# Altium schematic symbol library Supernova Transistors.SchLib: 47 symbols
Pins are listed as number, name and electrical type; pins without a type are passive.

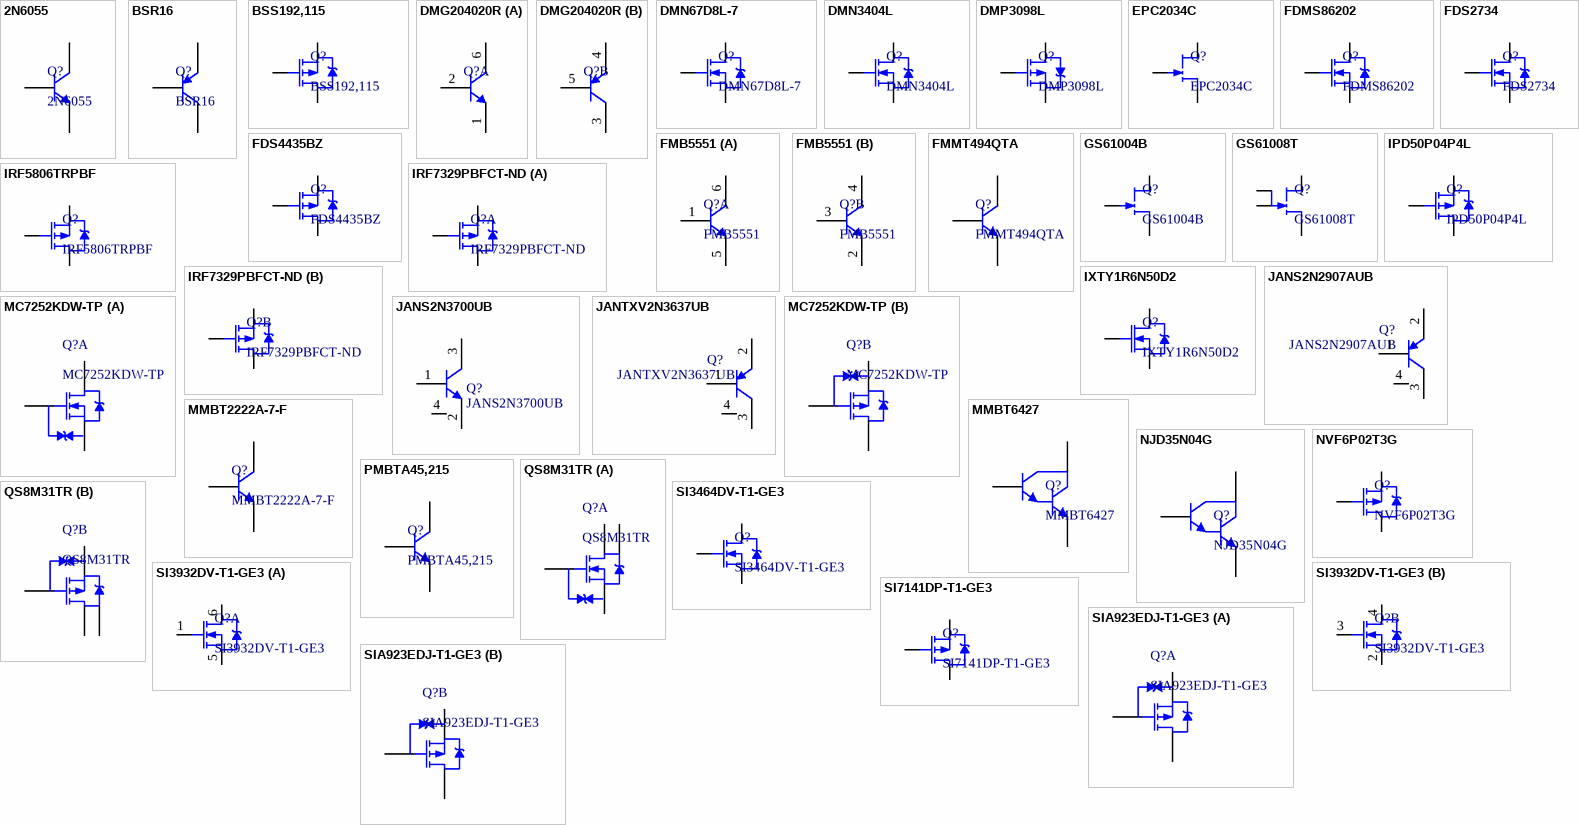
[diagram p0: symbols 2N6055 to SIA923EDJ-T1-GE3]

## 2N6055
designator Q?
Transistor NPN 100W; Supplier 1: Digi-Key; Supplier Part Number 1: 2N6055-ND; Supplier 2: Mouser; Supplier Part Number 2: 610-2N6055
footprint TO-3 (Footprint not found)
pins: 1 B, 2 E, 3 C

## BSR16
designator Q?
Transistor PNP; Supplier 1: Digi-Key; Supplier Part Number 1: BSR16CT-ND; Supplier 2: Digi-Key; Supplier Part Number 2: FMMT591CT-ND; Supplier 3: Digi-Key; Supplier 4: Digi-Key; Supplier 5: Digi-Key; Supplier Part Number 3: ZXTP25060BFHCT-ND; Supplier Part Number 4: DPBT8105DICT-ND; Supplier Part Number 5: ZXTP2029FCT-ND
footprint SOT23-3 (Footprint not found)
pins: 1 B, 2 E, 3 C

## BSS192,115
designator Q?
Transistor PMOSFET 240V; Mass_g: 0.1305; Supplier 1: Digi-Key; Supplier Part Number 1: 1727-4934-1-ND; Supplier 2: Mouser; Supplier Part Number 2: 771-BSS192115
footprint SOT89 (SOT89, 3-Leads, Body 4.50x2.50mm, Pitch 1.50mm, Lead Span 3.5mm, IPC Medium Density)
pins: 1 S, 2 D, 3 G

## DMG204020R
designator Q?  (value not drawn)
Transistor PNP & NPN; Supplier 1: Digi-Key; Supplier 2: Digi-Key; Supplier 3: Digi-Key; Supplier Part Number 1: DMG204020RCT-ND; Supplier Part Number 2: CMXT2207CT-ND; Supplier Part Number 3: 1727-6187-1-ND
footprint SOT23-6 (Footprint not found)
part A pins: 1 E, 2 B, 6 C
part B pins: 3 C, 4 E, 5 B

## DMN67D8L-7
designator Q?
Transistor NMOSFET 0.2A 30Vgs; Supplier 1: Digi-Key; Supplier 2: Digi-Key; Supplier Part Number 1: DMN67D8L-7DICT-ND; Supplier Part Number 2: NTR5103NT1GOSCT-ND
footprint SOT23-3 (Footprint not found)
pins: 1 G, 2 S, 3 D

## DMN3404L
designator Q?
Transistor NMOSFET 5A; Supplier 1: Digi-Key; Supplier Part Number 1: DMN3404LDICT-ND; Supplier 2: Digi-Key; Supplier Part Number 2: DMN3023L-7DICT-ND; Supplier 3: RSComponents; Supplier Part Number 3: 2139174; Supplier 4: Mouser; Supplier Part Number 4: 771-PMV42ENER
footprint SOT23-3 (Footprint not found)
pins: 1 G, 2 S, 3 D

## DMP3098L
designator Q?
Transistor PMOSFET 1.3A; Manufacturer Part Number: NTR1P02LT1G; Manufacturer: ON Semiconductor; Gate Charge (Qg) @ Vgs: 5.5nC @ 4V; Input Capacitance (Ciss) @ Vds: 225pF @ 5V; Drain to Source Voltage (Vdss): 20V; Rds On (Max) @ Id, Vgs: 220 mOhm @ 750mA, 4.5V; Power - Max: 400mW; FET Feature: Logic Level Gate; FET Polarity: P-Channel; Package / Case: SOT-23-3, TO-236-3, Micro3™, SSD3, SST3; Current - Continuous Drain (Id) @ 25° C: 1.3A; Mounting Type: Surface Mount; Packaging: Cut Tape (CT); Category: Discrete Semiconductor Products; RoHS: RoHS Compliant; ComponentLink1URL: http://www.onsemi.com/pub_link/Collateral/NTR1P02LT1-D.PDF; ComponentLink1Description: http://www.onsemi.com/pub_link/Collateral/NTR1P02LT1-D.PDF; Supplier 1 Pricing: 1=0.53, 10=0.375, 100=0.2461, 250=0.1846, 500=0.16782, 1000=0.13426 (USD); Supplier 1 Stock: 8272; Supplier 2 Pricing: 1=0.671, 25=0.462, 100=0.339, 250=0.273, 1000=0.22 (CHF); Supplier 2 Stock: 1953; Supplier 1: Digi-Key; Supplier 2: Digi-Key; Supplier 3: Digi-Key; Supplier 4: Digi-Key; Supplier Part Number 1: DMP3056L-7DICT-ND; Supplier Part Number 2: DMP3098LDICT-ND; Supplier Part Number 3: DMP3099L-7DICT-ND; Supplier Part Number 4: SSM3J334RLFCT-ND
footprint SOT23-3 (Footprint not found)
pins: 1 G, 2 S, 3 D

## EPC2034C
designator Q?
Transistor GaNFET 48A; Supplier 1: Digi-Key; Supplier 2: Digi-Key; Supplier Part Number 1: 917-1132-1-ND; Supplier Part Number 2: 917-1214-1-ND
footprint EPC2034C (BGA, 24-Leads, Body 4.60x2.60mmx0.51mm, Pitch 0.50mm)
pins: D, G, S

## FDMS86202
designator Q?
Transistor NMOSFET 120V 13.5A; Mass_g: 0.0565; Supplier 1: Mouser; Supplier Part Number 1: 512-FDMS86202; Supplier 2: Digi-Key; Supplier Part Number 2: FDMS86202CT-ND
footprint Power 56 (SON, 8-Leads, Body 5.15x6.15mm, Pitch 1.27mm, Thermal Pad 3.74x3.66mm, IPC Medium Density)
pins: D, G, S

## FDS2734
designator Q?
Transistor NMOSFET 250V 3A; Mass_g: 0.13; Supplier 1: Newark; Supplier Part Number 1: 31Y1389; Supplier 2: Digi-Key; Supplier Part Number 2: FDS2734CT-ND
footprint SOIC-8 (SOIC, 8-Leads, Body 4.90x3.90mm, Pitch 1.27mm, IPC Medium Density)
pins: 1 S, 2 S, 3 S, 4 G, 5 D, 6 D, 7 D, 8 D

## FDS4435BZ
designator Q?
Transistor PMOSFET 8A; Value: P-CH MOSFET 30V 8.8A; Package / Case: 8-SOIC; Operating Temperature: -55°C ~ 150°C; Supplier 1: Digi-Key; Supplier Part Number 1: FDS4435BZCT-ND; Supplier 2: Digi-Key; Supplier Part Number 2: FDS6679AZCT-ND
footprint SOIC-8 (SOIC, 8-Leads, Body 4.90x3.90mm, Pitch 1.27mm, IPC Medium Density)
pins: 1, 2, 3, 4, 5, 6, 7, 8

## FMB5551
designator Q?
Transistor NPN Pair; Supplier 1: Digi-Key; Supplier 2: Digi-Key; Supplier 3: Digi-Key; Supplier Part Number 1: FMB5551CT-ND; Supplier Part Number 2: FMBM5551CT-ND; Supplier Part Number 3: MMDTA06-7DICT-ND
footprint SOT23-6 (Footprint not found)
part A pins: 1 B, 5 E, 6 C
part B pins: 2 E, 3 B, 4 C

## FMMT494QTA
designator Q?
Transistor NPN; Mass_g: 0.0081; Supplier 1: Digi-Key; Supplier Part Number 1: FMMT494QTADICT-ND; Supplier 2: Mouser; Supplier Part Number 2: 621-FMMT494QTA
footprint SOT23-3 (Footprint not found)
footprint SOT23-3N_UB
pins: 1 B, 2 E, 3 C

## GS61004B
designator Q?
Transistor GaNFET 88A; Supplier 1: Mouser; Supplier 2: Mouser; Supplier Part Number 1: 499-GS61004B-E01-MR; Supplier Part Number 2: 499-GS61004B-MR
footprint GS61004B
pins: D, G, S

## GS61008T
designator Q?
Transistor GaNFET 90A; Supplier 1: Mouser; Supplier Part Number 1: 499-GS61008T-E01-MR
footprint GS61008T (GAN TRANS EMODE 100V 90A TOP SIDE COOLED)
pins: D, G1, G2, S

## IPD50P04P4L
designator Q?
Transistor PMOSFET 50A; Supplier 1: Digi-Key; Supplier Part Number 1: IPD50P04P4L11ATMA1CT-ND; Supplier 2: Digi-Key; Supplier Part Number 2: SUD50P04-15-E3CT-ND
footprint DPAK (Footprint not found)
pins: 1 G, 2 S, 3 D

## IRF5806TRPBF
designator Q?
Transistor PMOSFET 4A; Supplier 1: Digi-Key; Supplier Part Number 1: IRF5806TRPBFCT-ND; Supplier 2: Mouser; Supplier Part Number 2: 942-IRF5806TRPBF
footprint TSOP-6 (Footprint not found)
pins: 1 D, 2 D, 3 G, 4 S, 5 D, 6 D

## IRF7329PBFCT-ND
designator Q?
Transistor PMOSFET pair; Supplier 1: Digi-Key; Supplier Part Number 1: IRF7329PBFCT-ND; Supplier 2: Digi-Key; Supplier 3: Digi-Key; Supplier Part Number 2: IRF9358TRPBFCT-ND; Supplier Part Number 3: IRF9358PBF-ND
footprint SOIC-8 (SOIC, 8-Leads, Body 4.90x3.90mm, Pitch 1.27mm, IPC Medium Density)
part A pins: 1 S, 2 G, 7 D, 8 D
part B pins: 3 S, 4 G, 5 D, 6 D

## IXTY1R6N50D2
designator Q?
Transistor Depletion MOSFET 1.6A; Mass_g: 0.33; Supplier 1: Digi-Key; Supplier 2: Mouser; Supplier Part Number 1: IXTY1R6N50D2-ND; Supplier Part Number 2: 747-IXTY1R6N50D2
footprint DPAK (D2-PAK/TO-263-AB; 3 Leads (1 Cropped); Body 15.5 (inc. leads) x 10.5 mm (LxW max))
pins: 1 G, 2 D, 3 S

## JANS2N2907AUB
designator Q?
PNP Bipolar Transistor; Mfg. Part #: MMBT2907A; Mfg. Name: Fairchild; JANS Mfg. Name: Microsemi; Published: 8-Jun-2000; Publisher: Altium Limited; DigiKey Part #: MMBT2907AFSCT-ND; JANS Mfg. Part #: JANS2N2907AUB; DigiKey JANS Part #: 365-1565-ND; Supplier 1: Digi-Key; Supplier Part Number 1: 365-1565-ND; Supplier 2: Digi-Key; Supplier Part Number 2: 2N2907AUBMS-ND
footprint SOT23-3N_UB
pins: 1 B, 2 E, 3 C, 4 GND (power)

## JANS2N3700UB
designator Q?
NPN Bipolar Transistor; Mfg. Part #: CMPT3019; JANS Mfg. Name: Microsemi; Mfg. Name: Central Semi.; Published: 8-Jun-2000; Publisher: Altium Limited; DigiKey Part #: CMPT3019CT-ND; DigiKey JANS Part #: 2N3700UB-ND; Mfg JANS Part #: JANS2N3700UB; Supplier 1: Digi-Key; Supplier Part Number 1: 2N3700UB-ND; Supplier 2: Arrow Electronics; Supplier Part Number 2: 2N3700UB
footprint SOT23-3N_UB
pins: 1 B, 2 E, 3 C, 4 GND (power)

## JANTXV2N3637UB
designator Q?
PNP Bipolar Transistor; Mfg. Part #: MMBT2907A; JANS Mfg. Part #: JANS2N2907AUB; Mfg. Name: Fairchild; JANS Mfg. Name: Microsemi; Published: 8-Jun-2000; Publisher: Altium Limited; DigiKey Part #: MMBT2907AFSCT-ND; DigiKey JANS Part #: 365-1565-ND; Supplier 1: Digi-Key; Supplier 2: Mouser; Supplier Part Number 1: 1086-20897-MIL; Supplier Part Number 2: 494-JANTXV2N3637UB
footprint SOT23-3N_UB
pins: 1 B, 2 E, 3 C, 4 GND (power)

## MC7252KDW-TP
designator Q?
Transistor N/PMOSFET pair; Supplier 1: Digi-Key; Supplier Part Number 1: MC7252KDW-TPMSCT-ND
footprint SOT363 (TSOP, 6-Leads, Body 2.00x1.25mm, Pitch 0.65mm, IPC Medium Density)
part A pins: 1 S, 2 G, 6 D
part B pins: 3 D, 4 S, 5 G

## MMBT2222A-7-F
designator Q?
Transistor NPN 100hFE; Supplier 1: Digi-Key; Supplier 2: Digi-Key; Supplier Part Number 1: MMBT2222A-FDICT-ND; Supplier Part Number 2: MMBT2222ATPMSCT-ND
footprint SOT23-3 (Footprint not found)
pins: 1 B, 2 E, 3 C

## MMBT6427
designator Q?
Transistor NPN Darlington; Supplier 1: Digi-Key; Supplier Part Number 1: MMBT6427LT1GOSCT-ND; Supplier 2: Digi-Key; Supplier Part Number 2: FMMT634QTADICT-ND
footprint SOT23-3 (Footprint not found)
pins: 1 B, 2 E, 3 C

## NJD35N04G
designator Q?
Transistor NPN Darlington 45W; Supplier 1: Digi-Key; Supplier Part Number 1: NJD35N04GOS-ND; Supplier 2: Digi-Key; Supplier Part Number 2: NJVNJD35N04G-ND; Supplier 3: Mouser; Supplier Part Number 3: 863-NJD35N04G
footprint DPAK (D2-PAK/TO-263-AB; 3 Leads (1 Cropped); Body 15.5 (inc. leads) x 10.5 mm (LxW max))
pins: 1 B, 2 C, 3 E

## NVF6P02T3G
designator Q?
Transistor PMOSFET 10A; Supplier 1: Digi-Key; Supplier Part Number 1: NVF6P02T3GOSCT-ND; Supplier 2: Digi-Key; Supplier Part Number 2: NTF6P02T3GOSCT-ND
footprint SOT233 (Footprint not found)
pins: 1 G, 2 S, 3 D, 4 S

## PMBTA45,215
designator Q?
Transistor NPN; Mass_g: 0.0081; Supplier 1: Digi-Key; Supplier Part Number 1: 1727-5332-1-ND; Supplier 2: Digi-Key; Supplier Part Number 2: 497-13847-1-ND; Supplier 3: Mouser; Supplier Part Number 3: 771-PMBTA45215; Supplier 4: Digi-Key; Supplier Part Number 4: FMMT458CT-ND
footprint SOT23-3 (Footprint not found)
pins: 1 B, 2 E, 3 C

## QS8M31TR
designator Q?
Transistor N/PMOSFET pair; Supplier 1: Digi-Key; Supplier Part Number 1: QS8M31CT-ND; Supplier 2: Mouser; Supplier Part Number 2: 755-QS8M31TR
footprint TSMT8 (SON, 8-Leads, Body 3.00x2.80mm, Pitch 0.65mm, IPC Medium Density)
part A pins: 1 S, 2 G, 7 D, 8 D
part B pins: 3 S, 4 G, 5 D, 6 D

## SI3464DV-T1-GE3
designator Q?
Transistor NMOSFET 8A; Supplier 1: Digi-Key; Supplier 2: Digikey; Supplier Part Number 1: SI3464DV-T1-GE3CT-ND; Supplier Part Number 2: SI3460BDV-T1-GE3CT-ND
footprint SOT23-6 (Footprint not found)
pins: 1 D, 2 D, 3 G, 4 S, 5 D, 6 D

## SI3932DV-T1-GE3
designator Q?
Transistor NMOSFET pair 3A; Supplier 1: Digi-Key; Supplier Part Number 1: SI3932DV-T1-GE3CT-ND; Supplier 2: Digi-Key; Supplier Part Number 2: DMN3135LVT-7DICT-ND
footprint SOT23-6 (Footprint not found)
part A pins: 1 G, 5 S, 6 D
part B pins: 2 S, 3 G, 4 D

## SI7141DP-T1-GE3
designator Q?
Transistor PMOSFET 60A; Supplier 1: Digi-Key; Supplier Part Number 1: SI7141DP-T1-GE3CT-ND; Supplier 2: Digi-Key; Supplier Part Number 2: SI7145DP-T1-GE3CT-ND
footprint PowerPAK SO8 (Footprint not found)
pins: D, G, S

## SIA923EDJ-T1-GE3
designator Q?
Transistor PMOSFET pair small; Supplier 1: Digi-Key; Supplier 2: Digi-Key; Supplier 3: Digi-Key; Supplier Part Number 2: NTLUD3A50PZTAGOSCT-ND; Supplier Part Number 3: SSM6P49NULFCT-ND; Supplier Part Number 1: SIA923EDJ-T1-GE3CT-ND
footprint PowerPAK SC70-6 - Dual (SON, 6-Leads, Body 2.00x2.00mm, Pitch 0.65mm, Thermal Pad 0.67x0.89mm, IPC Medium Density)
part A pins: 1 S, 2 G, 6 D, 7 D
part B pins: 3 D, 4 S, 5 G, 8 D

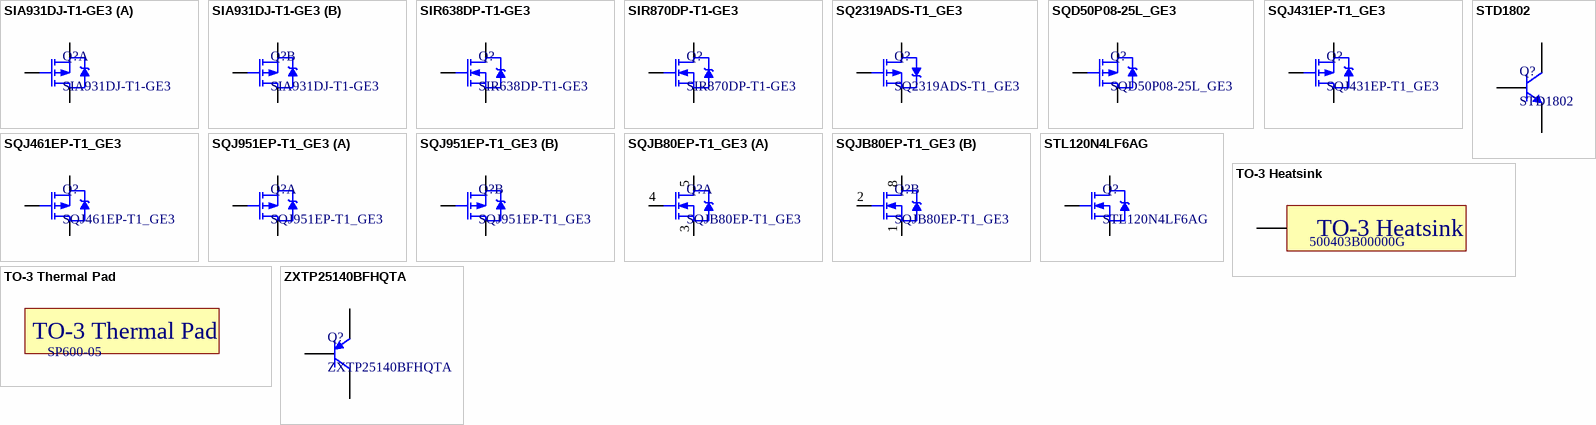
[diagram p1: symbols SIA931DJ-T1-GE3 to ZXTP25140BFHQTA]

## SIA931DJ-T1-GE3
designator Q?
Transistor PMOSFET pair small; Supplier 1: Digi-Key; Supplier Part Number 1: SIA931DJ-T1-GE3CT-ND
footprint PowerPAK SC70-6 - Dual (SON, 6-Leads, Body 2.00x2.00mm, Pitch 0.65mm, Thermal Pad 0.67x0.89mm, IPC Medium Density)
part A pins: 1 S, 2 G, 6 D, 7 D
part B pins: 3 D, 4 S, 5 G, 8 D

## SIR638DP-T1-GE3
designator Q?
Transistor NMOSFET 100A; Supplier 1: Digi-Key; Supplier Part Number 1: SIR638DP-T1-GE3CT-ND; Supplier 2: Mouser; Supplier 3: Mouser; Supplier 4: Digi-Key; Supplier Part Number 2: 78-SIR638DP-T1-GE3; Supplier Part Number 3: 78-SIRA60DP-T1-GE3; Supplier Part Number 4: SIRA60DP-T1-GE3CT-ND
footprint PowerPAK SO8 (Footprint not found)
pins: D, G, S

## SIR870DP-T1-GE3
designator Q?
Transistor NMOSFET 100V 60A; Supplier 1: Digi-Key; Supplier Part Number 1: SIR870DP-T1-GE3CT-ND; Supplier 2: Digi-Key; Supplier Part Number 2: SIR804DP-T1-GE3CT-ND
footprint PowerPAK SO8 (Footprint not found)
pins: D, G, S

## SQ2319ADS-T1_GE3
designator Q?
Transistor PMOSFET 4A 40V; Manufacturer Part Number: NTR1P02LT1G; Manufacturer: ON Semiconductor; Gate Charge (Qg) @ Vgs: 5.5nC @ 4V; Current - Continuous Drain (Id) @ 25° C: 1.3A; Input Capacitance (Ciss) @ Vds: 225pF @ 5V; Drain to Source Voltage (Vdss): 20V; Rds On (Max) @ Id, Vgs: 220 mOhm @ 750mA, 4.5V; Power - Max: 400mW; FET Feature: Logic Level Gate; FET Polarity: P-Channel; Package / Case: SOT-23-3, TO-236-3, Micro3™, SSD3, SST3; Mounting Type: Surface Mount; Packaging: Cut Tape (CT); Category: Discrete Semiconductor Products; RoHS: RoHS Compliant; ComponentLink1URL: http://www.onsemi.com/pub_link/Collateral/NTR1P02LT1-D.PDF; ComponentLink1Description: http://www.onsemi.com/pub_link/Collateral/NTR1P02LT1-D.PDF; Supplier 1 Pricing: 1=0.53, 10=0.375, 100=0.2461, 250=0.1846, 500=0.16782, 1000=0.13426 (USD); Supplier 1 Stock: 8272; Supplier 2 Pricing: 1=0.671, 25=0.462, 100=0.339, 250=0.273, 1000=0.22 (CHF); Supplier 2 Stock: 1953; Supplier 1: Digi-Key; Supplier Part Number 1: SQ2319ADS-T1_GE3CT-ND; Supplier 2: Digi-Key; Supplier Part Number 2: SQ2389ES-T1_GE3CT-ND; Supplier 3: Digi-Key; Supplier Part Number 3: SI2319CDS-T1-GE3CT-ND; Supplier 4: Mouser; Supplier Part Number 4: 78-SQ2319ADS-T1_BE3; Supplier 5: Digi-Key; Supplier Part Number 5: 742-SQ2319ADS-T1_BE3CT-ND; Supplier 6: Mouser; Supplier Part Number 6: 78-SQ2389ES-T1_BE3; Supplier 7: Digi-Key; Supplier Part Number 7: 742-SQ2389ES-T1_BE3CT-ND
footprint SOT23-3 (Footprint not found)
pins: 1 G, 2 S, 3 D

## SQD50P08-25L_GE3
designator Q?
Transistor PMOSFET 50A 80V; Supplier 1: Avnet; Supplier Part Number 1: 75AH9210; Supplier 2: Arrow Electronics; Supplier Part Number 2: SQD50P08-25L_GE3; Supplier 3: Digi-Key; Supplier Part Number 3: SQD50P08-25L_GE3CT-ND; Supplier 4: Mouser; Supplier Part Number 4: 78-SQD50P08-25L_GE3
footprint DPAK (Footprint not found)
pins: 1 G, 2 D, 3 S

## SQJ431EP-T1_GE3
designator Q?
Transistor PMOSFET 12A 200V; Supplier 1: Digi-Key; Supplier Part Number 1: SQJ431EP-T1_GE3CT-ND; Supplier 2: Newark; Supplier Part Number 2: 96Y9632; Supplier 3: Mouser; Supplier Part Number 3: 781-SQJ431EP-T1_GE3
footprint PowerPAK SO8L (Footprint not found)
pins: D, G, S

## SQJ461EP-T1_GE3
designator Q?
Transistor PMOSFET 30A; Supplier 1: Digi-Key; Supplier Part Number 1: SQJ461EP-T1_GE3CT-ND; Supplier 2: Digi-Key; Supplier Part Number 2: SQJ459EP-T1_GE3CT-ND
footprint PowerPAK SO8L (Footprint not found)
pins: D, G, S

## SQJ951EP-T1_GE3
designator Q?
Transistor PMOSFET pair 30A; Supplier 1: Digi-Key; Supplier 2: Mouser; Supplier Part Number 1: SQJ951EP-T1_GE3CT-ND; Supplier Part Number 2: 78-SQJ951EP-T1_GE3
footprint PowerPAK SO8L - dual (Footprint not found)
part A pins: 1 S, 2 G, 8 D
part B pins: 3 S, 4 G, 5 D

## SQJB80EP-T1_GE3
designator Q?
Transistor NMOSFET pair 30A; Supplier 1: Digi-Key; Supplier Part Number 1: SQJB80EP-T1_GE3CT-ND; Supplier 2: Digi-Key; Supplier Part Number 2: SQJ974EP-T1_GE3CT-ND
footprint PowerPAK SO8L - dual (Footprint not found)
part A pins: 3 S, 4 G, 5 D
part B pins: 1 S, 2 G, 8 D

## STD1802
designator Q?
Transistor NPN 3A; Supplier 1: Digi-Key; Supplier Part Number 1: 497-15633-1-ND; Supplier 2: Digi-Key; Supplier 3: Mouser; Supplier Part Number 2: 497-15668-1-ND; Supplier Part Number 3: 511-STD1802T4
footprint DPAK (Footprint not found)
pins: 1 B, 2 C, 3 E

## STL120N4LF6AG
designator Q?
Transistor NMOSFET 100A 40Vgs; Supplier 1: Digi-Key; Supplier Part Number 1: 497-16511-1-ND; Supplier 2: Mouser; Supplier 3: Mouser; Supplier 4: Digi-Key; Supplier Part Number 2: 511-STL120N4LF6AG; Supplier Part Number 3: 511-STL120N4F6AG; Supplier Part Number 4: 497-15475-1-ND
footprint PowerFlat (Footprint not found)
pins: D, G, S

## TO-3 Heatsink
designator H?, comment 500403B00000G
Heatsink TO-3; Supplier 1: Digi-Key; Supplier Part Number 1: HS264-ND; Supplier 2: Mouser; Supplier 3: Newark; Supplier Part Number 2: 532-500403B00; Supplier Part Number 3: 56P5587
footprint TO-3 heatsink
pins: 3 F

## TO-3 Thermal Pad
designator H?, comment SP600-05  (mechanical)
Heatsink TO-3 Pad; Supplier 1: Digi-Key; Supplier Part Number 1: BER100-ND; Supplier 2: Digi-Key; Supplier Part Number 2: BER101-ND

## ZXTP25140BFHQTA
designator Q?
Transistor PNP; Supplier 1: Avnet; Supplier Part Number 1: ZXTP25140BFHQTA; Supplier 2: Mouser; Supplier Part Number 2: 621-ZXTP25140BFHQTA
footprint SOT23-3 (Footprint not found)
footprint SOT23-3N_UB
pins: 1 B, 2 E, 3 C